# EAGLE library part OPA2365 (library Arsenio_Dev)
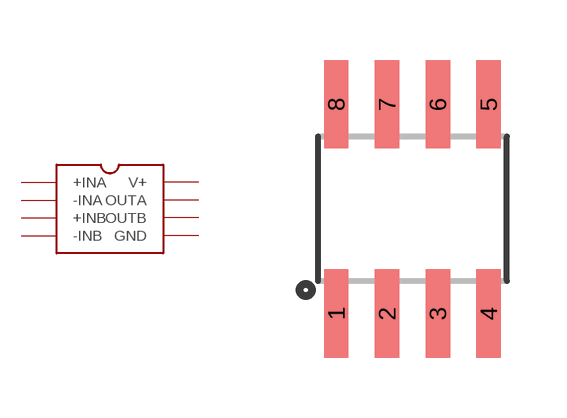
[diagram p7: symbol with the pads of SOIC8; footprint SOIC8]

Designator prefix -

## OPA2365  [SOIC8]
1  OUTA
2  -INA
3  +INA
4  GND
5  +INB
6  -INB
7  OUTB
8  V+

## Footprint SOIC8 (pad centres in mm)
smd 0.61 x 2.21: 1 -1.905,-2.616; 2 -0.635,-2.616; 3 0.635,-2.616; 4 1.905,-2.616; 5 1.905,2.616; 6 0.635,2.616; 7 -0.635,2.616; 8 -1.905,2.616